# EAGLE library part AK4550 (library akm)
CODEC Low Power, 16-Bit Delta Sigma
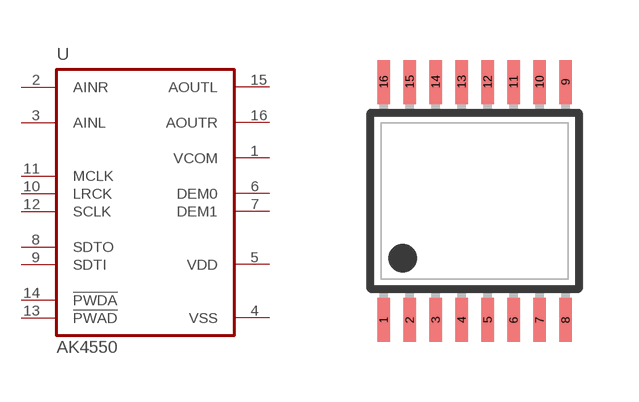
[diagram p27: symbol with the pads of TSSOP16; footprint TSSOP16]

Designator prefix U

## AK4550VT  [TSSOP16]
1  VCOM  pas
2  AINR  in
3  AINL  in
4  VSS  pwr
5  VDD  pwr
6  DEM0  in
7  DEM1  in
8  SDTO  out
9  SDTI  in
10  LRCK  in
11  MCLK  in
12  SCLK  in
13  !PWAD!  in
14  !PWDA!  in
15  AOUTL  out
16  AOUTR  out

## Footprint TSSOP16 (pad centres in mm)
Thin Shrink Small Outline Plastic 16
smd 0.31 x 1.1: 1 -2.275,-2.98; 2 -1.625,-2.98; 3 -0.975,-2.98; 4 -0.325,-2.98; 5 0.325,-2.98; 6 0.975,-2.98; 7 1.625,-2.98; 8 2.275,-2.98; 9 2.275,2.98; 10 1.625,2.98; 11 0.975,2.98; 12 0.325,2.98; 13 -0.325,2.98; 14 -0.975,2.98; 15 -1.625,2.98; 16 -2.275,2.98